# EAGLE library part LT3748 (library kicker)
LT3748 - 100V Isolated Flyback Controller Features 5V to 100V Input Voltage Range 1.9A Average Gate Drive Source and Sink Current Boundary Mode Operation No Transformer Third Winding or Opto-Isolator Required for Regulation Primary-Side Winding Feedback Load Regulation VOUT Set with Two External Resistors INTVCC Pin for Control of Gate Driver Voltage Programmable Soft Start Programmable Undervoltage Lockout Available in MSOP Package
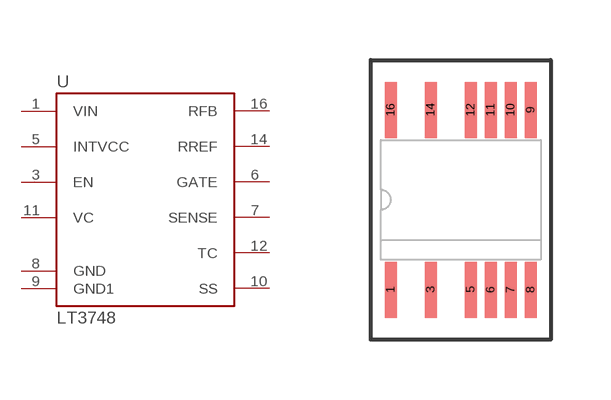
[diagram p3: symbol with the pads of MSOP16; footprint MSOP16]

Designator prefix U

## LT3748, LT3748EMS (MF: Analog Devices), LT3748HMS (MF: Analog Devices), LT3748IMS (MF: Analog Devices; MOUSER: LT3748IMS#TRPBF; MPN: LT3748IMS#PBF)  [MSOP16]
1  VIN
3  EN
5  INTVCC
6  GATE
7  SENSE
8  GND
9  GND1
10  SS
11  VC
12  TC
14  RREF
16  RFB

## Footprint MSOP16 (pad centres in mm)
smd 0.3 x 1.4: 1 -2,-2.25; 3 -1,-2.25; 5 0,-2.25; 6 0.5,-2.25; 7 1,-2.25; 8 1.5,-2.25; 9 1.5,2.25; 10 1,2.25; 11 0.5,2.25; 12 0,2.25; 14 -1,2.25; 16 -2,2.25